# Altium integrated library 219-4MST.IntLib: 1 symbol
Pins are listed as number, name and electrical type; pins without a type are passive.

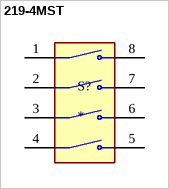
[diagram p0: symbol 219-4MST]

## 219-4MST
designator S?
Dip Switch SPST 4 Position Surface Mount Slide (Standard) Actuator 100mA 20VDC; MF: CTS Electronic Components; MP: 219-4MST; SnapEDA_Link: https://www.snapeda.com/parts/219-4MST/CTS+Components/view-part/?ref=snap; Package: None; Value: *; Check_prices: https://www.snapeda.com/parts/219-4MST/CTS+Components/view-part/?ref=eda
footprint SW_219-4MST
pins: 1, 2, 3, 4, 5, 6, 7, 8